# EAGLE library part USBLC6-4SC6 (library ruark2)
17V Clamp 5A (8/20µs) Ipp Tvs Diode Surface Mount SOT-23-6
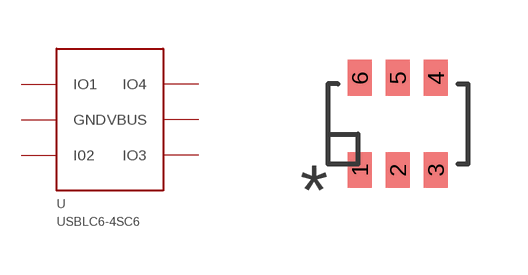
[diagram p110: symbol with the pads of SOT23-6; footprint SOT23-6]

Designator prefix U

## USBLC6-4SC6 (PARTNO: 497-4492-1-ND)  [SOT23-6]
1  IO1
2  GND
3  I02
4  IO3
5  VBUS
6  IO4

## Footprint SOT23-6 (pad centres in mm)
smd 0.6 x 0.9: 1 -0.95,-1.15; 2 0,-1.15; 3 0.95,-1.15; 4 0.95,1.15; 5 0,1.15; 6 -0.95,1.15